# Altium footprint library TEENSY41.PcbLib: 1 footprints
Each footprint in its own frame and in the unit in brackets; x right, y up, seen from the top. Pads: shape width x height; smd on the part's side, far side on the other; paste and mask are expansions set on the pad; w line width, h text height; cw(c..) or ccw(c..) is an arc to the next point about the centre after c.
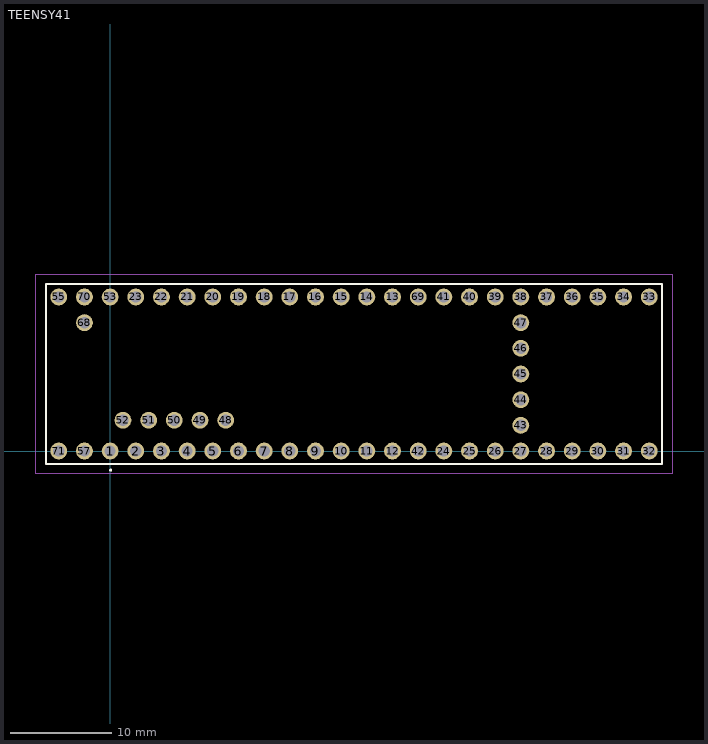
[diagram p0: the footprint, top view; thin cyan lines are the x and y axes]

## TEENSY41 [mm]
pads (59):
  round 1.665 hole 1.11: 1(0,0) 2(2.54,0) 3(5.08,0) 4(7.62,0) 5(10.16,0) 6(12.7,0) 7(15.24,0) 8(17.78,0) 9(20.32,0) 10(22.86,0) 11(25.4,0) 12(27.94,0) 13(27.94,15.24) 14(25.4,15.24) 15(22.86,15.24) 16(20.32,15.24) 17(17.78,15.24) 18(15.24,15.24) 19(12.7,15.24) 20(10.16,15.24) 21(7.62,15.24) 22(5.08,15.24) 23(2.54,15.24) 24(33.02,0) 25(35.56,0) 26(38.1,0) 27(40.64,0) 28(43.18,0) 29(45.72,0) 30(48.26,0) 31(50.8,0) 32(53.34,0) 33(53.34,15.24) 34(50.8,15.24) 35(48.26,15.24) 36(45.72,15.24) 37(43.18,15.24) 38(40.64,15.24) 39(38.1,15.24) 40(35.56,15.24) 41(33.02,15.24) 42(30.48,0) 43(40.64,2.54) 44(40.64,5.08) 45(40.64,7.62) 46(40.64,10.16) 47(40.64,12.7) 48(11.43,3.05) 49(8.89,3.05) 50(6.35,3.05) 51(3.81,3.05) 52(1.27,3.05) 53(0,15.24) 55(-5.08,15.24) 57(-2.54,0) 68(-2.54,12.7) 69(30.48,15.24) 70(-2.54,15.24) 71(-5.08,0)
Top Overlay:
  lines w0.2: 0,-1.9 0,-1.9 ; 0,-1.9 ccw(c0.05,-1.9) 0.1,-1.9 ; 0,-1.9 cw(c0.05,-1.9) 0.1,-1.9 ; 0,-1.9 0,-1.9 ; 0,-1.9 ccw(c0.05,-1.9) 0.1,-1.9 ; 0.1,-1.9 0.1,-1.9 ; -6.35,-1.27 54.61,-1.27 54.61,16.51 -6.35,16.51 -6.35,-1.27
Mechanical 15:
  lines w0.1: -6.35,-1.27 54.61,-1.27 54.61,16.51 -6.35,16.51 -6.35,-1.27
Mechanical 20:
  lines w0.1: -7.35,-2.27 55.61,-2.27 55.61,17.51 -7.35,17.51 -7.35,-2.27